# Altium schematic symbol library CI.SchLib: 42 symbols
Pins are listed as number, name and electrical type; pins without a type are passive.

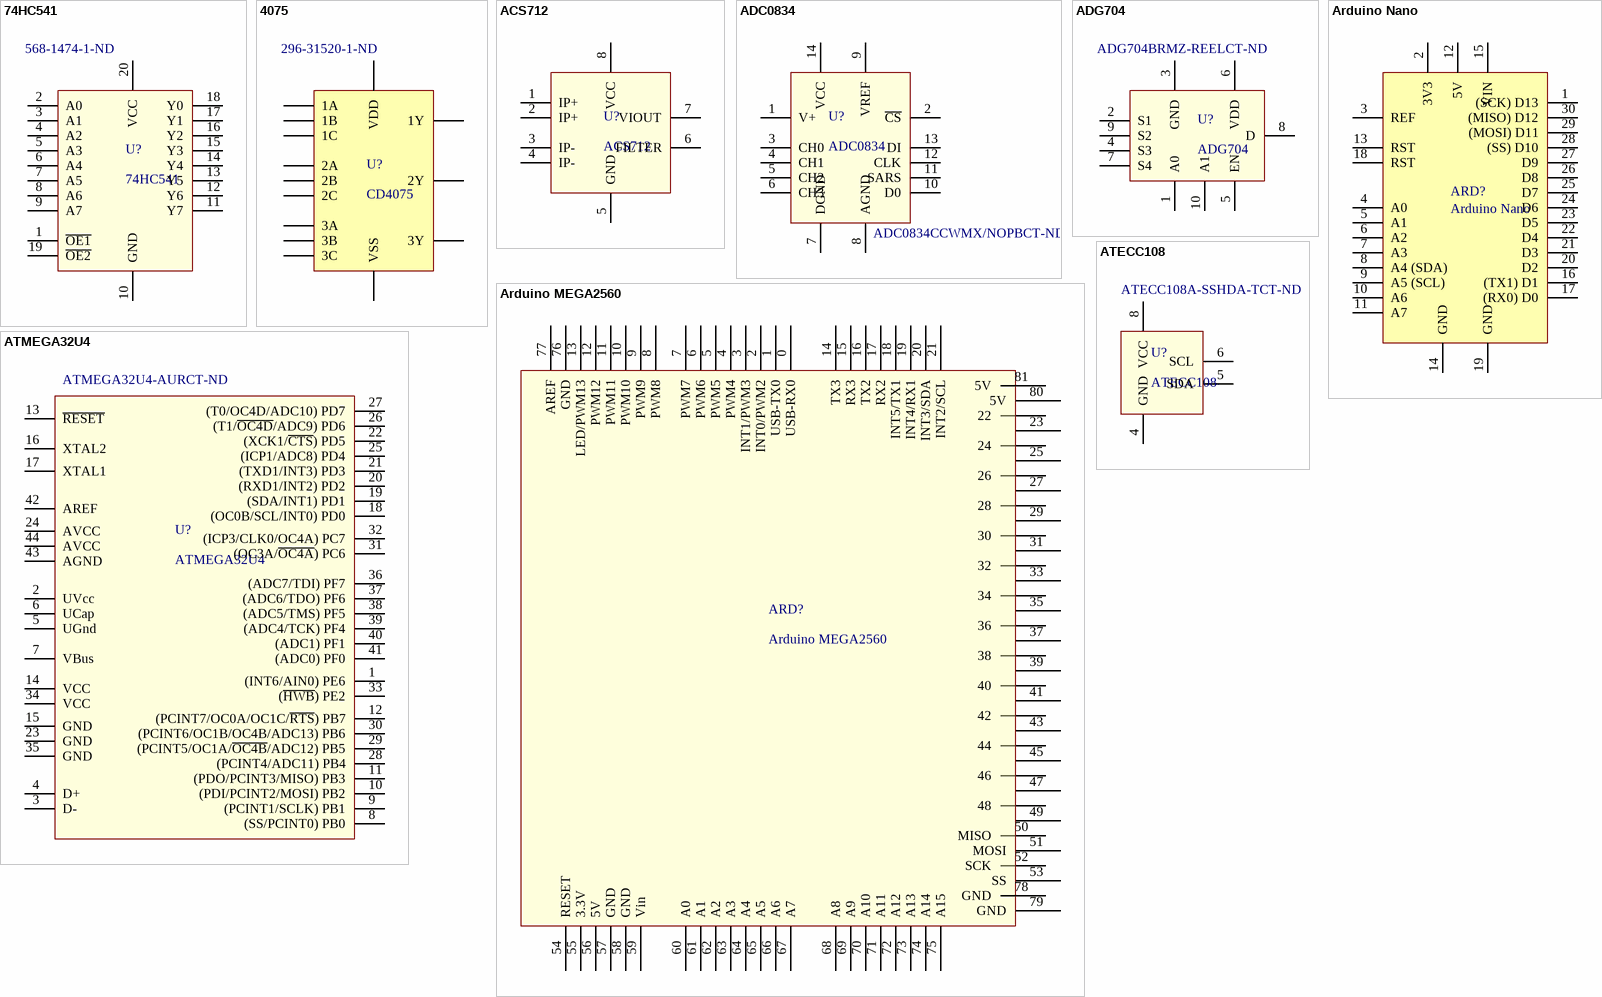
[diagram p0: symbols 74HC541 to ATMEGA32U4]

## 74HC541
designator U?  Supplier Part Number 1: 568-1474-1-ND
Octal buffer/line driver; 3-state; Supplier 1: Digi-Key
footprint SO20 (SOT163-1: plastic small outline package; 20 leads; body width 7.5 mm)
pins: 1 ~{OE1}, 2 A0, 3 A1, 4 A2, 5 A3, 6 A4, 7 A5, 8 A6, 9 A7, 10 GND, 11 Y7, 12 Y6, 13 Y5, 14 Y4, 15 Y3, 16 Y2, 17 Y1, 18 Y0, 19 ~{OE2}, 20 VCC

## 4075
designator U?, comment CD4075  Supplier Part Number 1: 296-31520-1-ND
CMOS OR Gate; Supplier 1: Digi-Key
footprint 4075 (4075 DIP14 Package)
footprint TSSOP14
pins: 1 1A, 2 1B, 3 2A, 4 2B, 5 2C, 6 2Y, 7 VSS (power), 8 1C, 9 1Y, 10 3Y, 11 3A, 12 3B, 13 3C, 14 VDD (power)

## ACS712
designator U?
Hall-efect current sensor
footprint SO8_L (SOIC-8 Narrow, Pitch 1.27mm, OP07)
pins: 1 IP+, 2 IP+, 3 IP-, 4 IP-, 5 GND, 6 FILTER, 7 VIOUT, 8 VCC

## ADC0834
designator U?  Supplier Part Number 1: ADC0834CCWMX/NOPBCT-ND
8-Bit Serial I/O ADC with Multiplexer Option; Supplier 1: Digi-Key
footprint SOIC-14 Wide
pins: 1 V+, 2 ~{CS}, 3 CH0, 4 CH1, 5 CH2, 6 CH3, 7 DGND, 8 AGND, 9 VREF, 10 D0, 11 SARS, 12 CLK, 13 DI, 14 VCC

## ADG704
designator U?  Supplier Part Number 1: ADG704BRMZ-REELCT-ND
CMOS Low Voltage 4 V, 4-Channel Multiplexer; Supplier 1: Digi-Key
footprint MSOP10 (10-Lead Mini Small Outline Package [MSOP]  (RM-10))
pins: 1 A0, 2 S1, 3 GND, 4 S3, 5 EN, 6 VDD, 7 S4, 8 D, 9 S2, 10 A1

## Arduino MEGA2560
designator ARD?
footprint Arduino MEGA2560 (Arduino Mega2560)
pins: 0 USB-RX0, 1 USB-TX0, 2 INT0/PWM2, 3 INT1/PWM3, 4 PWM4, 5 PWM5, 6 PWM6, 7 PWM7, 8 PWM8, 9 PWM9, 10 PWM10, 11 PWM11, 12 PWM12, 13 LED/PWM13, 14 TX3, 15 RX3, 16 TX2, 17 RX2, 18 INT5/TX1, 19 INT4/RX1, 20 INT3/SDA, 21 INT2/SCL, 22, 23, 24, 25, 26, 27, 28, 29, 30, 31, 32, 33, 34, 35, 36, 37, 38, 39, 40, 41, 42, 43, 44, 45, 46, 47, 48, 49, 50 MISO, 51 MOSI, 52 SCK, 53 SS, 54 RESET, 55 3.3V, 56 5V, 57 GND, 58 GND, 59 Vin, 60 A0, 61 A1, 62 A2, 63 A3, 64 A4, 65 A5, 66 A6, 67 A7, 68 A8, 69 A9, 70 A10, 71 A11, 72 A12, 73 A13, 74 A14, 75 A15, 76 GND, 77 AREF, 78 GND, 79 GND, 80 5V, 81 5V

## Arduino Nano
designator ARD?
footprint ARDUINO NANO (Arduino Nano)
pins: 1 (SCK) D13, 2 3V3, 3 REF, 4 A0, 5 A1, 6 A2, 7 A3, 8 A4 (SDA), 9 A5 (SCL), 10 A6, 11 A7, 12 5V, 13 RST, 14 GND, 15 VIN, 16 (TX1) D1, 17 (RX0) D0, 18 RST, 19 GND, 20 D2, 21 D3, 22 D4, 23 D5, 24 D6, 25 D7, 26 D8, 27 D9, 28 (SS) D10, 29 (MOSI) D11, 30 (MISO) D12

## ATECC108
designator U?  Supplier Part Number 1: ATECC108A-SSHDA-TCT-ND
Authentication Chip IC Networking and Communication; Supplier 1: Digi-Key
footprint SO8_L (SOIC-8 Narrow, Pitch 1.27mm, OP07)
pins: 4 GND, 5 SDA, 6 SCL, 8 VCC

## ATMEGA32U4
designator U?  Supplier Part Number 1: ATMEGA32U4-AURCT-ND
AVR ATmega Microcontroller IC 8-Bit 16MHz 32KB (16K x 16) FLASH; Supplier 1: Digi-Key
footprint TQFP44 (TQFP, 44-Leads, Body 10.00x10.00mm, Pitch 0.80mm, IPC Medium Density)
pins: 1 (INT6/AIN0) PE6, 2 UVcc, 3 D-, 4 D+, 5 UGnd, 6 UCap, 7 VBus, 8 (SS/PCINT0) PB0, 9 (PCINT1/SCLK) PB1, 10 (PDI/PCINT2/MOSI) PB2, 11 (PDO/PCINT3/MISO) PB3, 12 (PCINT7/OC0A/OC1C/~{RTS}) PB7, 13 ~{RESET}, 14 VCC, 15 GND, 16 XTAL2, 17 XTAL1, 18 (OC0B/SCL/INT0) PD0, 19 (SDA/INT1) PD1, 20 (RXD1/INT2) PD2, 21 (TXD1/INT3) PD3, 22 (XCK1/~{CTS}) PD5, 23 GND, 24 AVCC, 25 (ICP1/ADC8) PD4, 26 (T1/~{OC4D}/ADC9) PD6, 27 (T0/OC4D/ADC10) PD7, 28 (PCINT4/ADC11) PB4, 29 (PCINT5/OC1A/~{OC4B}/ADC12) PB5, 30 (PCINT6/OC1B/OC4B/ADC13) PB6, 31 (OC3A/~{OC4A}) PC6, 32 (ICP3/CLK0/OC4A) PC7, 33 (~{HWB}) PE2, 34 VCC, 35 GND, 36 (ADC7/TDI) PF7, 37 (ADC6/TDO) PF6, 38 (ADC5/TMS) PF5, 39 (ADC4/TCK) PF4, 40 (ADC1) PF1, 41 (ADC0) PF0, 42 AREF, 43 AGND, 44 AVCC

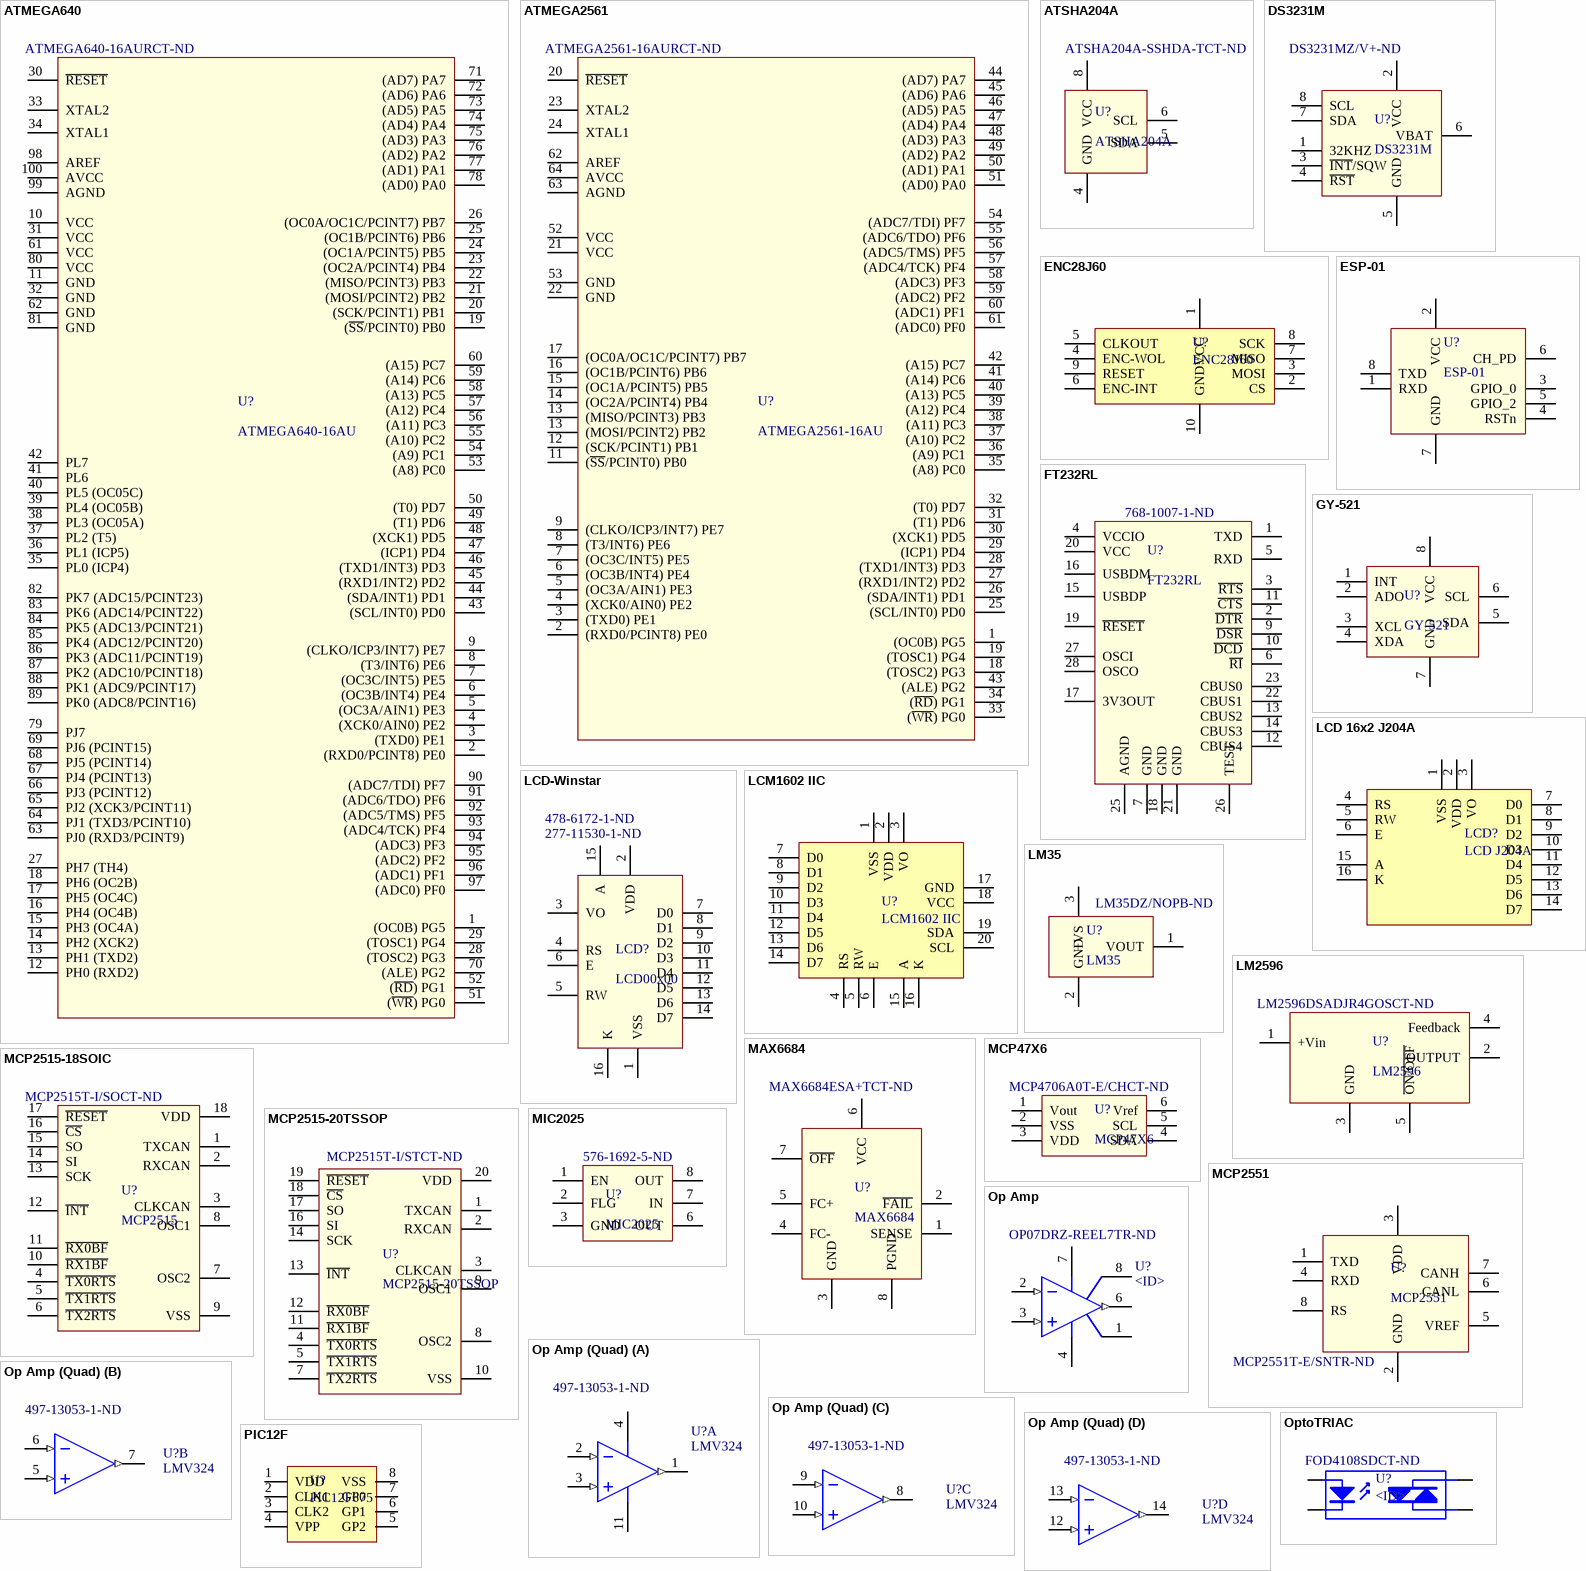
[diagram p1: symbols ATMEGA640 to PIC12F]

## ATMEGA640
designator U?, comment ATMEGA640-16AU  Supplier Part Number 1: ATMEGA640-16AURCT-ND
AVR ATmega Microcontroller IC 8-Bit 16MHz 64KB (32K x 16) FLASH; Supplier 1: Digi-Key
footprint TQFP-100 (100-lead, 14 x 14 mm Body Size, 1.0 mm Body Thickness,  0.5 mm Lead Pitch, Thin Profile Plastic Quad Flat Package (TQFP))
pins: 1 (OC0B) PG5, 2 (RXD0/PCINT8) PE0, 3 (TXD0) PE1, 4 (XCK0/AIN0) PE2, 5 (OC3A/AIN1) PE3, 6 (OC3B/INT4) PE4, 7 (OC3C/INT5) PE5, 8 (T3/INT6) PE6, 9 (CLKO/ICP3/INT7) PE7, 10 VCC, 11 GND, 12 PH0 (RXD2), 13 PH1 (TXD2), 14 PH2 (XCK2), 15 PH3 (OC4A), 16 PH4 (OC4B), 17 PH5 (OC4C), 18 PH6 (OC2B), 19 (~{SS}/PCINT0) PB0, 20 (SCK/PCINT1) PB1, 21 (MOSI/PCINT2) PB2, 22 (MISO/PCINT3) PB3, 23 (OC2A/PCINT4) PB4, 24 (OC1A/PCINT5) PB5, 25 (OC1B/PCINT6) PB6, 26 (OC0A/OC1C/PCINT7) PB7, 27 PH7 (TH4), 28 (TOSC2) PG3, 29 (TOSC1) PG4, 30 ~{RESET}, 31 VCC, 32 GND, 33 XTAL2, 34 XTAL1, 35 PL0 (ICP4), 36 PL1 (ICP5), 37 PL2 (T5), 38 PL3 (OC05A), 39 PL4 (OC05B), 40 PL5 (OC05C), 41 PL6, 42 PL7, 43 (SCL/INT0) PD0, 44 (SDA/INT1) PD1, 45 (RXD1/INT2) PD2, 46 (TXD1/INT3) PD3, 47 (ICP1) PD4, 48 (XCK1) PD5, 49 (T1) PD6, 50 (T0) PD7, 51 (~{WR}) PG0, 52 (~{RD}) PG1, 53 (A8) PC0, 54 (A9) PC1, 55 (A10) PC2, 56 (A11) PC3, 57 (A12) PC4, 58 (A13) PC5, 59 (A14) PC6, 60 (A15) PC7, 61 VCC, 62 GND, 63 PJ0 (RXD3/PCINT9), 64 PJ1 (TXD3/PCINT10), 65 PJ2 (XCK3/PCINT11), 66 PJ3 (PCINT12), 67 PJ4 (PCINT13), 68 PJ5 (PCINT14), 69 PJ6 (PCINT15), 70 (ALE) PG2, 71 (AD7) PA7, 72 (AD6) PA6, 73 (AD5) PA5, 74 (AD4) PA4, 75 (AD3) PA3, 76 (AD2) PA2, 77 (AD1) PA1, 78 (AD0) PA0, 79 PJ7, 80 VCC, 81 GND, 82 PK7 (ADC15/PCINT23), 83 PK6 (ADC14/PCINT22), 84 PK5 (ADC13/PCINT21), 85 PK4 (ADC12/PCINT20), 86 PK3 (ADC11/PCINT19), 87 PK2 (ADC10/PCINT18), 88 PK1 (ADC9/PCINT17), 89 PK0 (ADC8/PCINT16), 90 (ADC7/TDI) PF7, 91 (ADC6/TDO) PF6, 92 (ADC5/TMS) PF5, 93 (ADC4/TCK) PF4, 94 (ADC3) PF3, 95 (ADC2) PF2, 96 (ADC1) PF1, 97 (ADC0) PF0, 98 AREF, 99 AGND, 100 AVCC

## ATMEGA2561
designator U?, comment ATMEGA2561-16AU  Supplier Part Number 1: ATMEGA2561-16AURCT-ND
AVR ATmega Microcontroller IC 8-Bit 16MHz 256KB (128K x 16) FLASH; Supplier 1: Digi-Key
footprint TQFP-64 (64-lead, 14 x 14mm Body Size, 1.0mm Body Thickness,  0.8mm Lead Pitch, Thin Profile Plastic Quad Flat Package (TQFP))
pins: 1 (OC0B) PG5, 2 (RXD0/PCINT8) PE0, 3 (TXD0) PE1, 4 (XCK0/AIN0) PE2, 5 (OC3A/AIN1) PE3, 6 (OC3B/INT4) PE4, 7 (OC3C/INT5) PE5, 8 (T3/INT6) PE6, 9 (CLKO/ICP3/INT7) PE7, 11 (~{SS}/PCINT0) PB0, 12 (SCK/PCINT1) PB1, 13 (MISO/PCINT3) PB3, 13 (MOSI/PCINT2) PB2, 14 (OC2A/PCINT4) PB4, 15 (OC1A/PCINT5) PB5, 16 (OC1B/PCINT6) PB6, 17 (OC0A/OC1C/PCINT7) PB7, 18 (TOSC2) PG3, 19 (TOSC1) PG4, 20 ~{RESET}, 21 VCC, 22 GND, 23 XTAL2, 24 XTAL1, 25 (SCL/INT0) PD0, 26 (SDA/INT1) PD1, 27 (RXD1/INT2) PD2, 28 (TXD1/INT3) PD3, 29 (ICP1) PD4, 30 (XCK1) PD5, 31 (T1) PD6, 32 (T0) PD7, 33 (~{WR}) PG0, 34 (~{RD}) PG1, 35 (A8) PC0, 36 (A9) PC1, 37 (A10) PC2, 38 (A11) PC3, 39 (A12) PC4, 40 (A13) PC5, 41 (A14) PC6, 42 (A15) PC7, 43 (ALE) PG2, 44 (AD7) PA7, 45 (AD6) PA6, 46 (AD5) PA5, 47 (AD4) PA4, 48 (AD3) PA3, 49 (AD2) PA2, 50 (AD1) PA1, 51 (AD0) PA0, 52 VCC, 53 GND, 54 (ADC7/TDI) PF7, 55 (ADC6/TDO) PF6, 56 (ADC5/TMS) PF5, 57 (ADC4/TCK) PF4, 58 (ADC3) PF3, 59 (ADC2) PF2, 60 (ADC1) PF1, 61 (ADC0) PF0, 62 AREF, 63 AGND, 64 AVCC

## ATSHA204A
designator U?  Supplier Part Number 1: ATSHA204A-SSHDA-TCT-ND
Authentication Chip IC Networking and Communication; Supplier 1: Digi-Key
footprint SO8_L (SOIC-8 Narrow, Pitch 1.27mm, OP07)
pins: 4 GND, 5 SDA, 6 SCL, 8 VCC

## DS3231M
designator U?  Supplier Part Number 1: DS3231MZ/V+-ND
±5ppm, IIC Real-Time Clock; Supplier 1: Digi-Key
footprint SO8_L (SOIC-8 Narrow, Pitch 1.27mm, OP07)
pins: 1 32KHZ, 2 VCC, 3 ~{INT}/SQW, 4 ~{RST}, 5 GND, 6 VBAT, 7 SDA, 8 SCL

## ENC28J60
designator U?
Ethernet Module Arduino
footprint HEADER_2x5 (10-pin male header)
pins: 1 VCC, 2 CS, 3 MOSI, 4 ENC-WOL, 5 CLKOUT, 6 ENC-INT, 7 MISO, 8 SCK, 9 RESET, 10 GND

## ESP-01
designator U?
ESP8266 WiFi Module
footprint ESP-01 (ESP8266 WiFi Module)
pins: 1 RXD, 2 VCC, 3 GPIO_0, 4 RSTn, 5 GPIO_2, 6 CH_PD, 7 GND, 8 TXD

## FT232RL
designator U?  Supplier Part Number 1: 768-1007-1-ND
USB Bridge, USB to UART USB 2.0 UART Interface 28-SSOP; Supplier 1: Digi-Key
footprint SSOP-28 (SOP, 28-Leads, Body 10.20x5.30mm, Pitch 0.65mm, IPC Medium Density)
pins: 1 TXD, 2 ~{DTR}, 3 ~{RTS}, 4 VCCIO, 5 RXD, 6 ~{RI}, 7 GND, 9 ~{DSR}, 10 ~{DCD}, 11 ~{CTS}, 12 CBUS4, 13 CBUS2, 14 CBUS3, 15 USBDP, 16 USBDM, 17 3V3OUT, 18 GND, 19 ~{RESET}, 20 VCC, 21 GND, 22 CBUS1, 23 CBUS0, 25 AGND, 26 TEST, 27 OSCI, 28 OSCO

## GY-521
designator U?
MPU6050 Triple 3-Axis Accelerometer Gyroscope I2C
footprint HEADER_8_FEMALE_90DEG (8-pin female header 90°)
pins: 1 INT, 2 ADO, 3 XCL, 4 XDA, 5 SDA, 6 SCL, 7 GND, 8 VCC

## LCD 16x2 J204A
designator LCD?, comment LCD J204A
Liquid Crystal LCD 16x2 J204A
pins: 1 VSS, 2 VDD, 3 VO, 4 RS, 5 RW, 6 E, 7 D0, 8 D1, 9 D2, 10 D3, 11 D4, 12 D5, 13 D6, 14 D7, 15 A, 16 K

## LCD-Winstar
designator LCD?, comment LCD00x00  Supplier Part Number 1: 277-11530-1-ND  Supplier Part Number 2: 478-6172-1-ND
LCD Winstar; Supplier 1: Digi-Key; Supplier 2: Digi-Key
footprint LCD-Winstar (AVX Poke-Home 12 ways for LCD Winstar)
footprint TB-SPT-Vertical (Wire to Board Terminal Block Vertical with Board 0.138" (3.50mm) Surface Mount)
pins: 1 VSS, 2 VDD, 3 VO, 4 RS, 5 RW, 6 E, 7 D0, 8 D1, 9 D2, 10 D3, 11 D4, 12 D5, 13 D6, 14 D7, 15 A, 16 K

## LCM1602 IIC
designator U?
I2C LCD Display
pins: 1 VSS, 2 VDD, 3 VO, 4 RS, 5 RW, 6 E, 7 D0, 8 D1, 9 D2, 10 D3, 11 D4, 12 D5, 13 D6, 14 D7, 15 A, 16 K, 17 GND, 18 VCC, 19 SDA, 20 SCL

## LM35
designator U?  Supplier Part Number 1: LM35DZ/NOPB-ND
LM35 Precision Centigrade Temperature Sensors; Supplier 1: Digi-Key
footprint TO-92 (TO, Flat Index; 3 In-Line, Axial Leads; Body Dia. 4.5mm; Leads 0.51 x 0.48 mm (max))
pins: 1 VOUT, 2 GND, 3 +VS

## LM2596
designator U?  Supplier Part Number 1: LM2596DSADJR4GOSCT-ND
3.0 A, Step-Down Switching  Regulator; Supplier 1: Digi-Key
footprint D2PAK-5 (D2-PAK, TO263-5, No Heatsink)
pins: 1 +Vin, 2 OUTPUT, 3 GND, 4 Feedback, 5 ~{ON/OFF}

## MAX6684
designator U?  Supplier Part Number 1: MAX6684ESA+TCT-ND
Fan-Failure Detector with Integrated  Power Switch; Supplier 1: Digi-Key
footprint SO8_L (SOIC-8 Narrow, Pitch 1.27mm, OP07)
pins: 1 SENSE, 2 ~{FAIL}, 3 GND, 4 FC-, 5 FC+, 6 VCC, 7 ~{OFF}, 8 PGND

## MCP47X6
designator U?  Supplier Part Number 1: MCP4706A0T-E/CHCT-ND
8-/10-/12-Bit Voltage Output Digital-to-Analog Converter  with EEPROM and I2C Interface; Supplier 1: Digi-Key
footprint SOT23-6 (SOT-23-6 (SC-74): Surface mounted, 6 pin package)
pins: 1 Vout, 2 VSS, 3 VDD, 4 SDA, 5 SCL, 6 Vref

## MCP2515-18SOIC
designator U?, comment MCP2515  Supplier Part Number 1: MCP2515T-I/SOCT-ND
CAN Controller CAN 2.0 SPI Interface; Supplier 1: Digi-Key
footprint SOIC-18 (SOIC, 18-Leads, Body 10,35x7,50mm, Pitch 1,27mm, IPC Medium Density)
pins: 1 TXCAN, 2 RXCAN, 3 CLKCAN, 4 ~{TX0RTS}, 5 ~{TX1RTS}, 6 ~{TX2RTS}, 7 OSC2, 8 OSC1, 9 VSS, 10 ~{RX1BF}, 11 ~{RX0BF}, 12 ~{INT}, 13 SCK, 14 SI, 15 SO, 16 ~{CS}, 17 ~{RESET}, 18 VDD

## MCP2515-20TSSOP
designator U?  Supplier Part Number 1: MCP2515T-I/STCT-ND
CAN Controller CAN 2.0 SPI Interface; Supplier 1: Digi-Key
footprint TSSOP-20 (TSOP, 20-Leads, Body 6,50x4,40mm, Pitch 0,65mm, IPC Medium Density)
pins: 1 TXCAN, 2 RXCAN, 3 CLKCAN, 4 ~{TX0RTS}, 5 ~{TX1RTS}, 7 ~{TX2RTS}, 8 OSC2, 9 OSC1, 10 VSS, 11 ~{RX1BF}, 12 ~{RX0BF}, 13 ~{INT}, 14 SCK, 16 SI, 17 SO, 18 ~{CS}, 19 ~{RESET}, 20 VDD

## MCP2551
designator U?  Supplier Part Number 1: MCP2551T-E/SNTR-ND
1/1 Transceiver Half CAN 8-SOIC; Supplier 1: Digi-Key
footprint SO8_L (SOIC-8 Narrow, Pitch 1.27mm, OP07)
pins: 1 TXD, 2 GND, 3 VDD, 4 RXD, 5 VREF, 6 CANL, 7 CANH, 8 RS

## MIC2025
designator U?  Supplier Part Number 1: 576-1692-5-ND
IC DISTRIBUTION SW SGL 8-MSOP; Supplier 1: Digi-Key
footprint MSOP-8 MM8
pins: 1 EN, 2 FLG, 3 GND, 6 OUT, 7 IN, 8 OUT

## Op Amp
designator U?, comment <ID>  Supplier Part Number 1: OP07DRZ-REEL7TR-ND
Operational Amplifier; Published: 8-Jun-2000; LatestRevisionDate: 17-Jul-2002; LatestRevisionNote: Re-released for DXP Platform.; DatasheetVersion: REV. B; PackageVersion: 1990; PackageReference: H-08A; Publisher: Altium Limited; PackageDescription: Can; 8 Leads; Pin Circle Dia. 5.08 mm; Lead Dia. 0.53 mm (max); ComponentLink1Description: Manufacturer Link; ComponentLink1URL: http://www.analog.com/; Supplier 1: Digi-Key
footprint SO8_L (SOIC-8 Narrow, Pitch 1.27mm, OP07)
footprint SO8_W (SOIC-8 Wide)
pins: 1 OS NUL, 2 IN- (in), 3 IN+ (in), 4 V- (power), 6 OUT (out), 7 V+ (power), 8 TAB

## Op Amp (Quad)
designator U?, comment LMV324  Supplier Part Number 1: 497-13053-1-ND
Quad Operational Amplifier; Published: 8-Jun-2000; LatestRevisionDate: 17-Jul-2002; LatestRevisionNote: Re-released for DXP Platform.; DatasheetVersion: REV. B; PackageVersion: 1990; PackageReference: H-08A; Publisher: Altium Limited; PackageDescription: Can; 8 Leads; Pin Circle Dia. 5.08 mm; Lead Dia. 0.53 mm (max); ComponentLink1Description: Manufacturer Link; ComponentLink1URL: http://www.analog.com/; Supplier 1: Digi-Key
footprint TSSOP14
part A pins: 1 OUT1 (out), 2 IN1- (in), 3 IN1+ (in), 4 VCC+ (power), 11 VCC- (power)
part B pins: 5 IN2+ (in), 6 IN2- (in), 7 OUT2 (out)
part C pins: 8 OUT3 (out), 9 IN3- (in), 10 IN3+ (in)
part D pins: 12 IN4+ (in), 13 IN4- (in), 14 OUT4 (out)

## OptoTRIAC
designator U?, comment <ID>  Supplier Part Number 1: FOD4108SDCT-ND
OptoTRIAC; Supplier 1: Digi-Key
footprint OPTO_TRIAC (MOC302x MOC306x OptoTRIAC with Zero Crossing)
footprint 6-SMD (SMD IC 6 pins)
pins: 1 A, 2 K, 4 A/K, 6 A/K

## PIC12F
designator U?, comment PIC12F675
footprint DIP8
pins: 1 VDD, 2 CLK1, 3 CLK2, 4 VPP, 5 GP2, 6 GP1, 7 GP0, 8 VSS

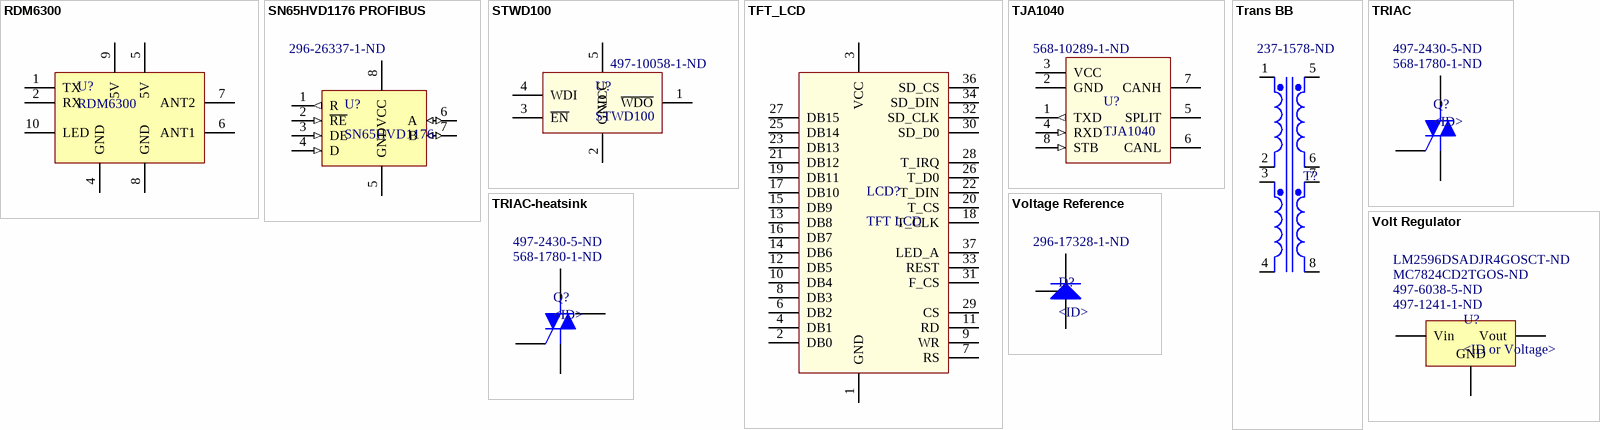
[diagram p2: symbols RDM6300 to Voltage Reference]

## RDM6300
designator U?
125 kHz RFID Module
footprint RDM6300 (125kHz RFID Reader)
pins: 1 TX, 2 RX, 3 hidden, 4 GND, 5 5V, 6 ANT1, 7 ANT2, 8 GND, 9 5V, 10 LED

## SN65HVD1176 PROFIBUS
designator U?, comment SN65HVD1176  Supplier Part Number 1: 296-26337-1-ND
SN65HVD1176 PROFIBUS® RS-485 Transceivers; Supplier 1: Digi-Key
footprint SO8_L (SOIC-8 Narrow, Pitch 1.27mm, OP07)
pins: 1 R (out), 2 ~{RE} (in), 3 DE (in), 4 D (in), 5 GND (power), 6 A (io), 7 B (io), 8 VCC (power)

## STWD100
designator U?  Supplier Part Number 1: 497-10058-1-ND
IC WATCHDOG TIME CIRCUIT; Supplier 1: Digi-Key
footprint SOT23-5 (SOT23-5 package)
pins: 1 ~{WDO} "Watchdog output", 2 GND "Ground", 3 ~{EN} "Enable pin", 4 WDI "Watchdog input", 5 VCC "Supply voltage"

## TFT_LCD
designator LCD?, comment TFT LCD
TFT LCD 2x20 pins
footprint TFT_3.2'' (TFT LCD 3.2'')
pins: 1 GND, 2 DB0, 3 VCC, 4 DB1, 6 DB2, 7 RS, 8 DB3, 9 WR, 10 DB4, 11 RD, 12 DB5, 13 DB8, 14 DB6, 15 DB9, 16 DB7, 17 DB10, 18 T_CLK, 19 DB11, 20 T_CS, 21 DB12, 22 T_DIN, 23 DB13, 25 DB14, 26 T_D0, 27 DB15, 28 T_IRQ, 29 CS, 30 SD_D0, 31 F_CS, 32 SD_CLK, 33 REST, 34 SD_DIN, 36 SD_CS, 37 LED_A

## TJA1040
designator U?  Supplier Part Number 1: 568-10289-1-ND
High speed CAN transceiver; Supplier 1: Digi-Key
footprint SO8_L (SOIC-8 Narrow, Pitch 1.27mm, OP07)
pins: 1 TXD (out) "Transmit Data Input", 2 GND (power) "Ground Supply", 3 VCC (power) "Supply Voltage", 4 RXD (in) "receive data output; reads out data  from the bus lines", 5 SPLIT (power) "common-mode stabilization output", 6 CANL "LOW-level CAN bus line", 7 CANH "HIGH-level CAN bus line", 8 STB (in) "standby mode control input"

## Trans BB
designator T?  Supplier Part Number 1: 237-1578-ND
Buck-boost Transformer (Ideal); Published: 25-Jan-2001; LatestRevisionDate: 17-Jul-2002; LatestRevisionNote: Re-released for DXP Platform.; PackageReference: TRF_8; Publisher: Altium Limited; PackageDescription: Transformer; 8 Leads; Supplier 1: Digi-Key
footprint Triad FS10-110-C2-B (Triad Magnetics Class 2 Transformer LAMINATED 1.1VA THRU HOLE)
pins: 1 Pri1+, 2 Pri1-, 3 Pri2+, 4 Pri2-, 5 Sec1+, 6 Sec1-, 7 Sec2+, 8 Sec2-

## TRIAC
designator Q?, comment <ID>  Supplier Part Number 1: 568-1780-1-ND  Supplier Part Number 2: 497-2430-5-ND
TRIAC; Supplier 1: Digi-Key; Supplier 2: Digi-Key
footprint TO-220 (TO-220 with Heatsink)
footprint D2PAK-2 TRIAC (BTA225B-600B)
footprint TOP3 (TOP3 insulated)
footprint TOP3-heatsink (TOP3 insulated with medium heatsink)
pins: 1 A1, 2 A2, 3 G

## TRIAC-heatsink
designator Q?, comment <ID>  Supplier Part Number 1: 568-1780-1-ND  Supplier Part Number 2: 497-2430-5-ND
TRIAC; Supplier 1: Digi-Key; Supplier 2: Digi-Key
footprint TO-220 (TO-220 with Heatsink)
footprint TOP3-heatsink (TOP3 insulated with medium heatsink)
pins: 0, 1 A1, 2 A2, 3 G

## Volt Regulator
designator U?, comment <ID or Voltage>  Supplier Part Number 1: 497-1241-1-ND  Supplier Part Number 2: 497-6038-5-ND  Supplier Part Number 3: MC7824CD2TGOS-ND  Supplier Part Number 4: LM2596DSADJR4GOSCT-ND
Voltage Regulator; Supplier 1: Digi-Key; Supplier 2: Digi-Key; Supplier 3: Digi-Key; Supplier 4: Digi-Key
footprint TO-220 (TO-220 with Heatsink)
footprint D2PAK- NO HS (D2-PAK, TO263-3, No Heatsink)
footprint D2PAK HS (D2-PAK, TO263-3, with Heatsink)
footprint D2PAK HS Big (D2-PAK, TO263-3, with Big Heatsink)
footprint DPAK-2 (DPAK Package)
footprint SOT-223 (Surface mounted, 4 pin package; LM1117, MC33269)
pins: 1 Vin, 2 GND, 3 Vout

## Voltage Reference
designator D?, comment <ID>  Supplier Part Number 1: 296-17328-1-ND
Voltage reference diode; Supplier 1: Digi-Key
footprint SOT23 (BC848B)
pins: 1 REF, 2 A, 3 K